# Altium footprint library Limbo.PcbLib: 7 footprints
Each footprint in its own frame and in the unit in brackets; x right, y up, seen from the top. Pads: shape width x height; smd on the part's side, far side on the other; paste and mask are expansions set on the pad; w line width, h text height; cw(c..) or ccw(c..) is an arc to the next point about the centre after c.
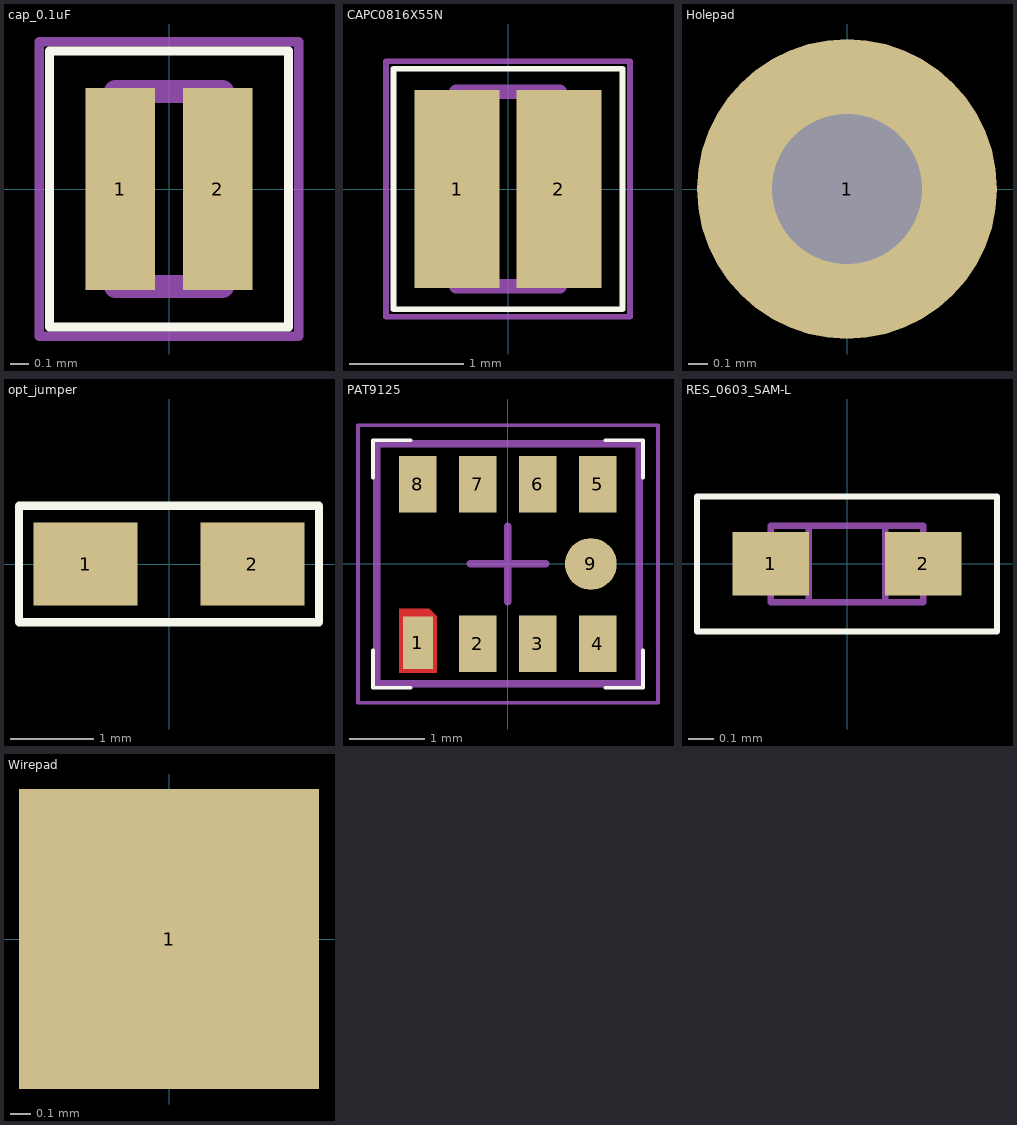
[diagram p0: the footprints below, top view; thin cyan lines are the x and y axes]

## cap_0.1uF [mm]
pads (2):
  rect 0.38x1.1 smd: 1(-0.265,0) 2(0.265,0)
Top Overlay:
  lines w0.05: -0.65,-0.75 0.65,-0.75 0.65,0.75 -0.65,0.75 -0.65,-0.75
Mechanical 13:
  lines w0.127: -0.29,-0.53 -0.29,0.53 0.29,0.53 0.29,-0.53 -0.29,-0.53
Mechanical 15:
  lines w0.05: -0.705,-0.8 -0.705,0.8 0.705,0.8 0.705,-0.8 -0.705,-0.8
3D body "step_temp.STEP": height 0.35, standoff 0, extent -0.26,-0.5 0.26,0.5

## CAPC0816X55N [mm]
pads (2):
  rect 0.74x1.73 smd: 1(-0.445,0) 2(0.445,0)
Top Overlay:
  lines w0.05: -1,-1.05 1,-1.05 1,1.05 -1,1.05 -1,-1.05
Mechanical 13:
  lines w0.127: -0.45,-0.85 0.45,-0.85 0.45,0.85 -0.45,0.85 -0.45,-0.85
Mechanical 15:
  lines w0.05: -1.065,-1.115 1.065,-1.115 1.065,1.115 -1.065,1.115 -1.065,-1.115
3D body "step_temp.STEP": height 0.55, standoff 0, extent -0.4,-0.8 0.4,0.8

## Holepad [mil]
height 78.74
pads (1):
  round 60 hole 30: 1(0,0)

## opt_jumper [mm]
pads (2):
  rect 1.25x1 smd: 1(-1,0) 2(1,0)
Top Overlay:
  lines w0.1: -1.8,-0.7 1.8,-0.7 1.8,0.7 -1.8,0.7 -1.8,-0.7

## PAT9125 [mm] "LGA, 8-Leads, Body 3.50mmx3.20mmx1.00mm, Pitch 0.80mm"
height 3.5
pads (9):
  rect 0.4x0.7 smd paste+0 mask+0: 1(-1.2,-1.05)
  rect 0.5x0.75 smd: 2(-0.4,-1.065) 3(0.4,-1.065) 4(1.2,-1.065) 5(1.2,1.065) 6(0.4,1.065) 7(-0.4,1.065) 8(-1.2,1.065)
  round 0.69 smd: 9(1.105,0)
Top Layer:
  region: -1.45,-1.45 -0.95,-1.45 -0.95,-0.7 -1.05,-0.6 -1.45,-0.6
Top Overlay:
  lines w0.05: -1.8,1.15 -1.8,1.65 -1.3,1.65 ; -1.3,-1.65 -1.8,-1.65 ; 1.3,-1.65 1.8,-1.65 ; 1.8,1.15 1.8,1.65 ; -1.8,-1.65 -1.8,-1.15 -1.8,-1.65 ; 1.8,-1.65 1.8,-1.15 1.8,-1.65 ; 1.8,1.65 1.3,1.65 1.8,1.65
Top Paste:
  region: -1.45,-1.45 -0.95,-1.45 -0.95,-0.7 -1.05,-0.6 -1.45,-0.6
Top Solder:
  region: -1.55,-0.492 -1,-0.492 -0.85,-0.642 -0.85,-1.542 -1.55,-1.542
Mechanical 13:
  lines w0.1: -1.75,-1.6 -1.75,1.6 1.75,1.6 1.75,-1.6 -1.75,-1.6
Mechanical 15:
  lines w0.05: -2,-1.85 -2,1.85 2,1.85 2,-1.85 -2,-1.85
  lines w0.1: -0.5,0 0.5,0 ; 0,-0.5 0,0.5
3D body: height 1, standoff 0.1, extent -1.75,-1.6 1.75,1.6

## RES_0603_SAM-L [mm]
pads (2):
  rect 0.3x0.25 smd paste+0 mask+0: 1(-0.3,0) 2(0.3,0)
Top Overlay:
  lines w0.025: -0.59,-0.266 0.59,-0.266 0.59,0.265 -0.59,0.265 -0.59,-0.266
Mechanical 13:
  lines w0.025: -0.3,-0.15 -0.3,0.15 ; -0.3,-0.15 -0.15,-0.15 -0.15,0.15 -0.3,0.15 ; -0.3,-0.15 -0.3,0.15 ; -0.3,-0.15 0.3,-0.15 ; -0.3,0.15 0.3,0.15 ; 0.3,-0.15 0.3,0.15 ; 0.3,-0.15 0.3,0.15 ; 0.3,-0.15 0.15,-0.15 0.15,0.15 0.3,0.15
3D body: height 0.25, standoff 0, extent -0.299,-0.151 0.299,0.151

## Wirepad [mm] "5mmx3mm SMD pad"
height 3
pads (4):
  rect 1.5x1.5 smd: 1(0,0)
  rect 0x0 smd paste+0 mask+0: 2(0,0) 3(0,0) 4(0,0)